# EAGLE library part B39871B3725U410 (library B39871B3725U410)
SAW Filter RF 869MHzFrequency 3.5dB 50Ohm SMD 6Pin DCC6C Automotive
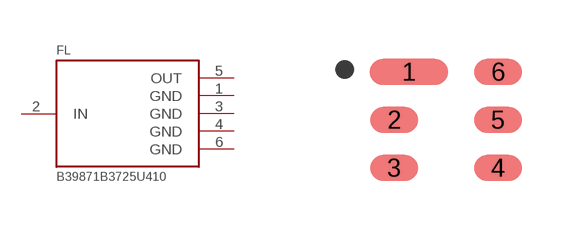
[diagram p0: symbol with the pads of SON120P300X300X110-6N; footprint SON120P300X300X110-6N]

Designator prefix FL

## B39871B3725U410 (AVAILABILITY: Unavailable; DESCRIPTION: SAW Filter RF 869MHz Frequency 3.5dB 50Ohm SMD 6 Pin DCC6C Automotive; MF: Qualcomm _RF360; MP: B39871B3725U410; PACKAGE: SMD-6 RF360 Holdings; PRICE: None)  [SON120P300X300X110-6N]
1  GND  pwr
2  IN  in
3  GND  pwr
4  GND  pwr
5  OUT  out
6  GND  pwr

## Footprint SON120P300X300X110-6N (pad centres in mm)
smd 1.96 x 0.65: 1 -0.93,1.2
smd 1.2 x 0.65: 2 -1.3,0; 3 -1.3,-1.2; 4 1.3,-1.2; 5 1.3,0; 6 1.3,1.2